# Altium schematic symbol library Un_interruptable_power_supply_180534N_Schematic_Library.SchLib: 4 symbols
Pins are listed as number, name and electrical type; pins without a type are passive.

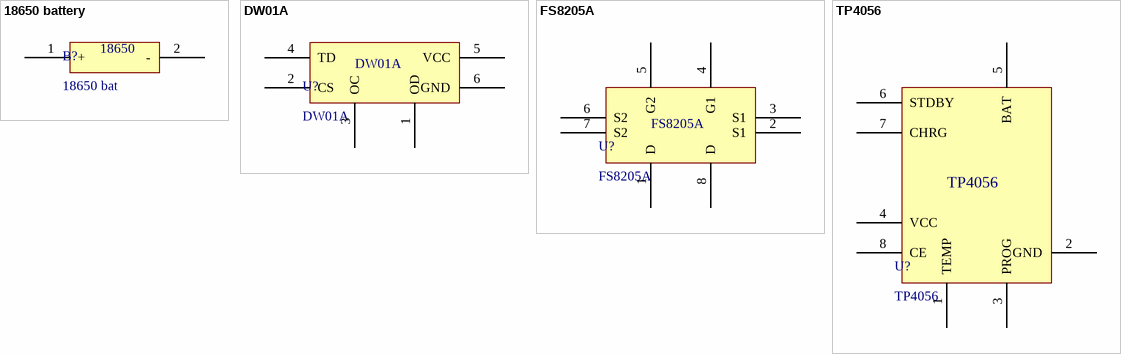
[diagram p0: symbols 18650 battery to TP4056]

## 18650 battery
designator B?, comment 18650 bat
footprint 18650 Battery connect
pins: 1 + (power), 2 - (power)
text: 18650

## DW01A
designator U?
18650 Battery Protection IC/ Provide over current, over charge and over discharge protection
footprint DW01A - SOT 23-6 PACKAGE
pins: 1 OD "Discharge control MOSFET gate pin", 2 CS "Current sense and charge detect input", 3 OC "Charge control MOSFET gate pin", 4 TD "Delay time reduction test pin", 5 VCC (power) "Power supply pin", 6 GND (power) "Ground pin"

## FS8205A
designator U?
Dual N channel MOSFET
footprint FS8205A - TSSOP-8 PACKAGE
pins: 1 D, 2 S1, 3 S1, 4 G1, 5 G2, 6 S2, 7 S2, 8 D

## TP4056
designator U?
18650 single cell charge controller/ Constant current, Constant Voltage available/ Max input 4.5V~6V/ Max current 1A/ Float voltage 4.2V
footprint TP4056 IC - SOIC_8 Package
pins: 1 TEMP, 2 GND (power), 3 PROG, 4 VCC (power), 5 BAT (power), 6 STDBY, 7 CHRG, 8 CE